# Altium schematic symbol library CUBIC_SCH.SchLib: 153 symbols (part 1 of 7)
Pins are listed as number, name and electrical type; pins without a type are passive.

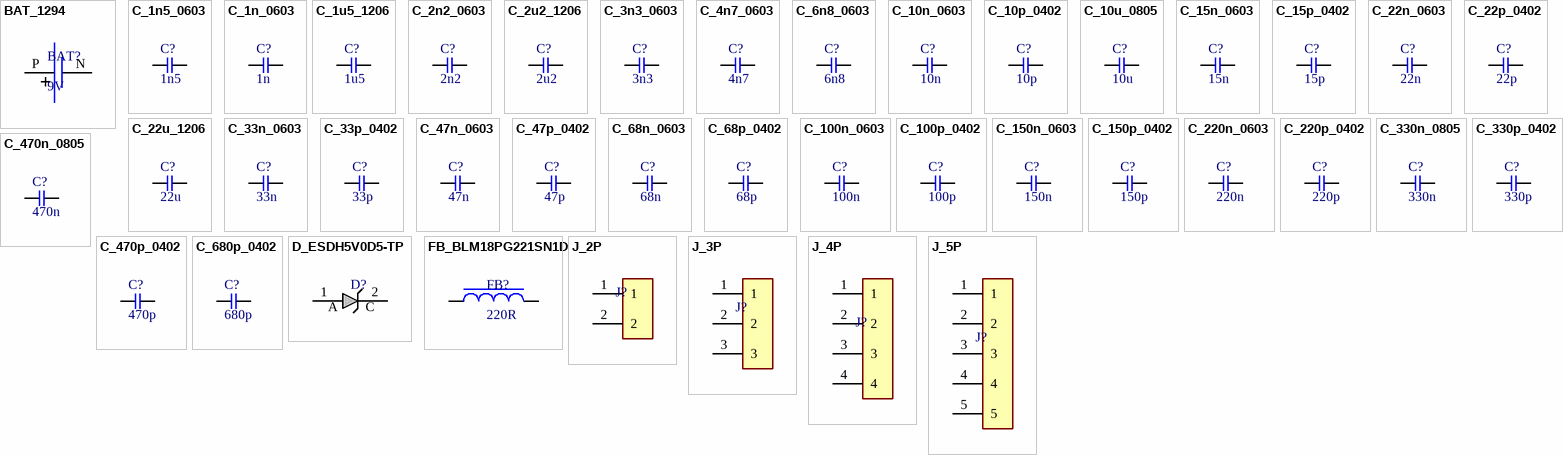
[diagram p0: symbols BAT_1294 to J_5P]

## BAT_1294
designator BAT?, comment 9V
Batteries/Accessories; Manufacturer: Keystone Electronics; Manufacturer Part Number: 1294; Connector Type: PCB; Option: General Purpose; DIN Conformance: No; Supplier: Digikey; Supplier Part Number: 36-1294-ND; RoHS: Yes; Category: Batteries and Accessories; Stock: 5351; Pricing: 1=2.96, 10=2.75, 500=2.13, 1000=1.6963, 2500=1.57521, 5000=1.54001 (USD); Contact Finish - Mating: NOT SPECIFIED; IEC Conformance: No; MIL Conformance: No; Reach SVHC Compliant: Yes; RoHS Compliant: Yes; ComponentLink1URL: https://datasheet.ciiva.com:443/pdfs/VipMasterIC/IC/KEYC/KEYCS01036/KEYCS02682-1.pdf?src-supplier=IHS+Markit; ComponentLink1Description: https://datasheet.ciiva.com:443/pdfs/VipMasterIC/IC/KEYC/KEYCS01036/KEYCS02682-1.pdf?src-supplier=IHS+Markit; ComponentLink2URL: https://datasheet.ciiva.com/1391/1716650-1391274.pdf?src-supplier=Element14; ComponentLink2Description: https://datasheet.ciiva.com/1391/1716650-1391274.pdf?src-supplier=Element14; ComponentLink3URL: https://datasheet.ciiva.com/4/1294-4181.pdf?src-supplier=Digikey; ComponentLink3Description: https://datasheet.ciiva.com/4/1294-4181.pdf?src-supplier=Digikey; ComponentLink4URL: https://datasheet.ciiva.com/18403/70182887-18403178.pdf?src-supplier=Allied+Electronics; ComponentLink4Description: https://datasheet.ciiva.com/18403/70182887-18403178.pdf?src-supplier=Allied+Electronics
footprint BAT_1294
pins: N 2, P 1

## C_1n5_0603
designator C?, comment 1n5
Ceramic Capacitor, Multilayer, Ceramic, 50V, 10% +Tol, 10% -Tol, X7R, 15% TC, 0.0015uF, Surface Mount, 0603; Manufacturer: Murata; Manufacturer Part Number: GCM188R71H152KA37D; Value: 1.5nF; Multilayer: Yes; Reference Standard: AEC-Q200; Supplier: Digikey; Supplier Part Number: 490-8021-1-ND; RoHS: Yes; Category: Ceramic Capacitors; Stock: 38151; Pricing: 1=0.17, 10=0.098, 50=0.0684, 100=0.0594, 500=0.04408, 1000=0.03929 (USD); Mounting Technology: Surface Mount; Pins: 2; Dielectric Material: Ceramic; Package Shape: Rectangular; Case/Package: 0603; Terminal Finish: Nickel; Min Operating Temperature: -55°C; Max Operating Temperature: 125°C; JESD-609 Code: e3; Capacitor Type: Ceramic; Tolerance  (fill in as +-): 10%; Package Style: SMTMeter; Packaging: Tape and Reel; Tolerance (fill in as +-): 10%; Rated DC Voltage (URdc): 50V; Temperature Characteristics Code: X7R; Termination: Wraparound; Length: 1.6mm; Width: 0.8mm; Height: 0.9mm; Reach SVHC Compliant: Yes; RoHS Compliant: Yes; ComponentLink1URL: https://datasheet.ciiva.com:443/pdfs/VipMasterIC/IC/MURE/MURE-S-A0004362469/MURE-S-A0004363035-1.pdf?src-supplier=IHS+Markit; ComponentLink1Description: https://datasheet.ciiva.com:443/pdfs/VipMasterIC/IC/MURE/MURE-S-A0004362469/MURE-S-A0004363035-1.pdf?src-supplier=IHS+Markit; ComponentLink2URL: https://datasheet.ciiva.com/29534/s0717e-29534630.pdf?src-supplier=Digikey; ComponentLink2Description: https://datasheet.ciiva.com/29534/s0717e-29534630.pdf?src-supplier=Digikey; ComponentLink3URL: https://datasheet.ciiva.com/29534/s0717e-29534631.pdf?src-supplier=Digikey; ComponentLink3Description: https://datasheet.ciiva.com/29534/s0717e-29534631.pdf?src-supplier=Digikey; ComponentLink4URL: https://datasheet.ciiva.com/29534/s0717e-29534632.pdf?src-supplier=Digikey; ComponentLink4Description: https://datasheet.ciiva.com/29534/s0717e-29534632.pdf?src-supplier=Digikey
footprint C_0603
pins: 1, 2

## C_1n_0603
designator C?, comment 1n
Ceramic Capacitor, Multilayer, Ceramic, 50V, 10% +Tol, 10% -Tol, X7R, 15% TC, 0.001uF, Surface Mount, 0603; Manufacturer: Murata; Manufacturer Part Number: GCM188R71H102KA37D; Value: 1nF; Multilayer: Yes; Reference Standard: AEC-Q200; Supplier: Digikey; Supplier Part Number: 490-4777-1-ND; RoHS: Yes; Category: Ceramic Capacitors; Stock: 6503474; Pricing: 1=0.11, 10=0.061, 50=0.0424, 100=0.0367, 500=0.02708, 1000=0.02409 (USD); Mounting Technology: Surface Mount; Pins: 2; Dielectric Material: Ceramic; Package Shape: Rectangular; Case/Package: 0603; Terminal Finish: Nickel; Min Operating Temperature: -55°C; Max Operating Temperature: 125°C; JESD-609 Code: e3; Capacitor Type: Ceramic; Tolerance  (fill in as +-): 10%; Package Style: SMTMeter; Packaging: Tape and Reel; Tolerance (fill in as +-): 10%; Rated DC Voltage (URdc): 50V; Temperature Characteristics Code: X7R; Termination: Wraparound; Length: 1.6mm; Width: 0.8mm; Height: 0.9mm; Reach SVHC Compliant: Yes; RoHS Compliant: Yes; ComponentLink1URL: https://psearch.en.murata.com:443/capacitor/product/GCM188R71H102KA37%23.pdf?src-supplier=IHS+Markit; ComponentLink1Description: https://psearch.en.murata.com:443/capacitor/product/GCM188R71H102KA37%23.pdf?src-supplier=IHS+Markit; ComponentLink2URL: https://datasheet.ciiva.com/131/product-131993.pdf?src-supplier=Digikey; ComponentLink2Description: https://datasheet.ciiva.com/131/product-131993.pdf?src-supplier=Digikey; ComponentLink3URL: https://datasheet.ciiva.com/131/product-131994.pdf?src-supplier=Digikey; ComponentLink3Description: https://datasheet.ciiva.com/131/product-131994.pdf?src-supplier=Digikey; ComponentLink4URL: https://datasheet.ciiva.com/131/product-131995.pdf?src-supplier=Digikey; ComponentLink4Description: https://datasheet.ciiva.com/131/product-131995.pdf?src-supplier=Digikey; ComponentLink5URL: https://datasheet.ciiva.com/18183/getdatasheetpartid-310250-18183617.pdf?src-supplier=Verical; ComponentLink5Description: https://datasheet.ciiva.com/18183/getdatasheetpartid-310250-18183617.pdf?src-supplier=Verical; ComponentLink6URL: https://datasheet.ciiva.com/11787/0900766b80ef92d0-11787654.pdf?src-supplier=Rs; ComponentLink6Description: https://datasheet.ciiva.com/11787/0900766b80ef92d0-11787654.pdf?src-supplier=Rs; ComponentLink7URL: https://datasheet.ciiva.com/11621/product-11621654.pdf?src-supplier=Avnet; ComponentLink7Description: https://datasheet.ciiva.com/11621/product-11621654.pdf?src-supplier=Avnet
footprint C_0603
pins: 1, 2

## C_1u5_1206
designator C?, comment 1u5
Ceramic Capacitor, Multilayer, Ceramic, 50V, 10% +Tol, 10% -Tol, X7R, 15% TC, 1.5uF, Surface Mount, 1206; Manufacturer: Murata; Manufacturer Part Number: GCM31CR71H155KA55L; Multilayer: Yes; Reference Standard: AEC-Q200; Supplier: Digikey; Supplier Part Number: 490-GCM31CR71H155KA55LCT-ND; RoHS: Yes; Category: Ceramic Capacitors; Stock: 2071; Pricing: 1=0.36, 10=0.211, 50=0.152, 100=0.1337, 500=0.1025, 1000=0.09276 (USD); Mounting Technology: Surface Mount; Pins: 2; Dielectric Material: Ceramic; Package Shape: Rectangular; Case/Package: 1206; Terminal Finish: Nickel; Min Operating Temperature: -55°C; Max Operating Temperature: 125°C; JESD-609 Code: e3; Value: 1.5uF; Capacitor Type: Ceramic; Tolerance  (fill in as +-): 10%; Package Style: SMTMeter; Packaging: Tape and Reel; Tolerance (fill in as +-): 10%; Rated DC Voltage (URdc): 50V; Temperature Characteristics Code: X7R; Termination: Wraparound; Length: 3.2mm; Width: 1.6mm; Height: 1.6mm; Reach SVHC Compliant: Yes; RoHS Compliant: Yes; ComponentLink1URL: https://datasheet.ciiva.com:443/pdfs/VipMasterIC/IC/MURE/MURE-S-A0004442191/MURE-S-A0004444852-1.pdf?src-supplier=IHS+Markit; ComponentLink1Description: https://datasheet.ciiva.com:443/pdfs/VipMasterIC/IC/MURE/MURE-S-A0004442191/MURE-S-A0004444852-1.pdf?src-supplier=IHS+Markit; ComponentLink2URL: https://datasheet.ciiva.com/174/s0717e-174705.pdf?src-supplier=Digikey; ComponentLink2Description: https://datasheet.ciiva.com/174/s0717e-174705.pdf?src-supplier=Digikey; ComponentLink3URL: https://datasheet.ciiva.com/11615/product-11615734.pdf?src-supplier=Avnet; ComponentLink3Description: https://datasheet.ciiva.com/11615/product-11615734.pdf?src-supplier=Avnet
footprint C_1206
pins: 1, 2

## C_2n2_0603
designator C?, comment 2n2
Ceramic Capacitor, Multilayer, Ceramic, 50V, 10% +Tol, 10% -Tol, X7R, 15% TC, 0.0022uF, Surface Mount, 0603; Manufacturer: Murata; Manufacturer Part Number: GCM188R71H222KA37D; Value: 2.2nF; Multilayer: Yes; Reference Standard: AEC-Q200; Supplier: Digikey; Supplier Part Number: 490-4931-1-ND; RoHS: Yes; Category: Ceramic Capacitors; Stock: 1903554; Pricing: 1=0.11, 10=0.061, 50=0.0424, 100=0.0367, 500=0.02708, 1000=0.02409 (USD); Mounting Technology: Surface Mount; Pins: 2; Dielectric Material: Ceramic; Package Shape: Rectangular; Case/Package: 0603; Terminal Finish: Nickel; Min Operating Temperature: -55°C; Max Operating Temperature: 125°C; JESD-609 Code: e3; Capacitor Type: Ceramic; Tolerance  (fill in as +-): 10%; Package Style: SMTMeter; Packaging: Tape and Reel; Tolerance (fill in as +-): 10%; Rated DC Voltage (URdc): 50V; Temperature Characteristics Code: X7R; Termination: Wraparound; Length: 1.6mm; Width: 0.8mm; Height: 0.9mm; Reach SVHC Compliant: Yes; RoHS Compliant: Yes; ComponentLink1URL: https://psearch.en.murata.com:443/capacitor/product/GCM188R71H222KA37%23.pdf?src-supplier=IHS+Markit; ComponentLink1Description: https://psearch.en.murata.com:443/capacitor/product/GCM188R71H222KA37%23.pdf?src-supplier=IHS+Markit; ComponentLink2URL: https://datasheet.ciiva.com/11786/0900766b80ef92d0-11786558.pdf?src-supplier=Rs; ComponentLink2Description: https://datasheet.ciiva.com/11786/0900766b80ef92d0-11786558.pdf?src-supplier=Rs; ComponentLink3URL: https://datasheet.ciiva.com/18183/getdatasheetpartid-178903-18183632.pdf?src-supplier=Verical; ComponentLink3Description: https://datasheet.ciiva.com/18183/getdatasheetpartid-178903-18183632.pdf?src-supplier=Verical; ComponentLink4URL: https://datasheet.ciiva.com/132/product-132035.pdf?src-supplier=Digikey; ComponentLink4Description: https://datasheet.ciiva.com/132/product-132035.pdf?src-supplier=Digikey; ComponentLink5URL: https://datasheet.ciiva.com/132/product-132036.pdf?src-supplier=Digikey; ComponentLink5Description: https://datasheet.ciiva.com/132/product-132036.pdf?src-supplier=Digikey; ComponentLink6URL: https://datasheet.ciiva.com/132/product-132037.pdf?src-supplier=Digikey; ComponentLink6Description: https://datasheet.ciiva.com/132/product-132037.pdf?src-supplier=Digikey; ComponentLink7URL: https://datasheet.ciiva.com/11463/product-11463813.pdf?src-supplier=Avnet; ComponentLink7Description: https://datasheet.ciiva.com/11463/product-11463813.pdf?src-supplier=Avnet
footprint C_0603
pins: 1, 2

## C_2u2_1206
designator C?, comment 2u2
Ceramic Capacitor, Multilayer, Ceramic, 50V, 10% +Tol, 10% -Tol, X7R, 15% TC, 2.2uF, Surface Mount, 1206; Manufacturer: Murata; Manufacturer Part Number: GCM31CR71H225KA55L; Multilayer: Yes; Reference Standard: AEC-Q200; Supplier: Digikey; Supplier Part Number: 490-4796-1-ND; RoHS: Yes; Category: Ceramic Capacitors; Stock: 350274; Pricing: 1=0.25, 10=0.147, 50=0.1058, 100=0.0931, 500=0.07134, 1000=0.06457 (USD); Mounting Technology: Surface Mount; Pins: 2; Dielectric Material: Ceramic; Package Shape: Rectangular; Case/Package: 1206; Terminal Finish: Nickel; Min Operating Temperature: -55°C; Max Operating Temperature: 125°C; JESD-609 Code: e3; Value: 2.2uF; Capacitor Type: Ceramic; Tolerance  (fill in as +-): 10%; Package Style: SMTMeter; Packaging: Tape and Reel; Tolerance (fill in as +-): 10%; Rated DC Voltage (URdc): 50V; Temperature Characteristics Code: X7R; Termination: Wraparound; Length: 3.2mm; Width: 1.6mm; Height: 1.8mm; Reach SVHC Compliant: Yes; RoHS Compliant: Yes; ComponentLink1URL: https://datasheet.ciiva.com:443/pdfs/VipMasterIC/IC/MURE/MURE-S-A0004442191/MURE-S-A0004444812-1.pdf?src-supplier=IHS+Markit; ComponentLink1Description: https://datasheet.ciiva.com:443/pdfs/VipMasterIC/IC/MURE/MURE-S-A0004442191/MURE-S-A0004444812-1.pdf?src-supplier=IHS+Markit; ComponentLink2URL: https://datasheet.ciiva.com/11789/0900766b80ef92d0-11789112.pdf?src-supplier=Rs; ComponentLink2Description: https://datasheet.ciiva.com/11789/0900766b80ef92d0-11789112.pdf?src-supplier=Rs; ComponentLink3URL: https://datasheet.ciiva.com/139/product-139819.pdf?src-supplier=Digikey; ComponentLink3Description: https://datasheet.ciiva.com/139/product-139819.pdf?src-supplier=Digikey; ComponentLink4URL: https://datasheet.ciiva.com/139/product-139820.pdf?src-supplier=Digikey; ComponentLink4Description: https://datasheet.ciiva.com/139/product-139820.pdf?src-supplier=Digikey; ComponentLink5URL: https://datasheet.ciiva.com/139/product-139821.pdf?src-supplier=Digikey; ComponentLink5Description: https://datasheet.ciiva.com/139/product-139821.pdf?src-supplier=Digikey; ComponentLink6URL: https://datasheet.ciiva.com/2989/product-2989249.pdf?src-supplier=Avnet; ComponentLink6Description: https://datasheet.ciiva.com/2989/product-2989249.pdf?src-supplier=Avnet; ComponentLink7URL: https://datasheet.ciiva.com/11615/product-11615502.pdf?src-supplier=Avnet; ComponentLink7Description: https://datasheet.ciiva.com/11615/product-11615502.pdf?src-supplier=Avnet; ComponentLink8URL: https://datasheet.ciiva.com/16449/product-16449562.pdf?src-supplier=Future+Electronics; ComponentLink8Description: https://datasheet.ciiva.com/16449/product-16449562.pdf?src-supplier=Future+Electronics
footprint C_1206
pins: 1, 2

## C_3n3_0603
designator C?, comment 3n3
Ceramic Capacitor, Multilayer, Ceramic, 50V, 10% +Tol, 10% -Tol, X7R, 15% TC, 0.0033uF, Surface Mount, 0603; Manufacturer: Murata; Manufacturer Part Number: GCM188R71H332KA37D; Value: 3.3nF; Multilayer: Yes; Reference Standard: AEC-Q200; Supplier: Digikey; Supplier Part Number: 490-8023-1-ND; RoHS: Yes; Category: Ceramic Capacitors; Stock: 110036; Pricing: 1=0.11, 10=0.061, 50=0.0424, 100=0.0367, 500=0.02708, 1000=0.02409 (USD); Mounting Technology: Surface Mount; Pins: 2; Dielectric Material: Ceramic; Package Shape: Rectangular; Case/Package: 0603; Terminal Finish: Nickel; Min Operating Temperature: -55°C; Max Operating Temperature: 125°C; JESD-609 Code: e3; Capacitor Type: Ceramic; Tolerance  (fill in as +-): 10%; Package Style: SMTMeter; Packaging: Tape and Reel; Tolerance (fill in as +-): 10%; Rated DC Voltage (URdc): 50V; Temperature Characteristics Code: X7R; Termination: Wraparound; Length: 1.6mm; Width: 0.8mm; Height: 0.9mm; Reach SVHC Compliant: Yes; RoHS Compliant: Yes; ComponentLink1URL: https://datasheet.ciiva.com:443/pdfs/VipMasterIC/IC/MURE/MURE-S-A0004362469/MURE-S-A0004362971-1.pdf?src-supplier=IHS+Markit; ComponentLink1Description: https://datasheet.ciiva.com:443/pdfs/VipMasterIC/IC/MURE/MURE-S-A0004362469/MURE-S-A0004362971-1.pdf?src-supplier=IHS+Markit; ComponentLink2URL: https://datasheet.ciiva.com/11620/product-11620470.pdf?src-supplier=Avnet; ComponentLink2Description: https://datasheet.ciiva.com/11620/product-11620470.pdf?src-supplier=Avnet; ComponentLink3URL: https://datasheet.ciiva.com/26937/getdatasheetpartid-549274-26937503.pdf?src-supplier=Verical; ComponentLink3Description: https://datasheet.ciiva.com/26937/getdatasheetpartid-549274-26937503.pdf?src-supplier=Verical; ComponentLink4URL: https://datasheet.ciiva.com/29542/s0717e-29542462.pdf?src-supplier=Digikey; ComponentLink4Description: https://datasheet.ciiva.com/29542/s0717e-29542462.pdf?src-supplier=Digikey; ComponentLink5URL: https://datasheet.ciiva.com/29542/s0717e-29542463.pdf?src-supplier=Digikey; ComponentLink5Description: https://datasheet.ciiva.com/29542/s0717e-29542463.pdf?src-supplier=Digikey
footprint C_0603
pins: 1, 2

## C_4n7_0603
designator C?, comment 4n7
Ceramic Capacitor, Multilayer, Ceramic, 50V, 10% +Tol, 10% -Tol, X7R, 15% TC, 0.0047uF, Surface Mount, 0603; Manufacturer: Murata; Manufacturer Part Number: GCM188R71H472KA37D; Value: 4.7nF; Multilayer: Yes; Reference Standard: AEC-Q200; Supplier: Digikey; Supplier Part Number: 490-4932-1-ND; RoHS: Yes; Category: Ceramic Capacitors; Stock: 261412; Pricing: 1=0.16, 10=0.088, 50=0.0614, 100=0.0532, 500=0.03928, 1000=0.03495 (USD); Mounting Technology: Surface Mount; Pins: 2; Dielectric Material: Ceramic; Package Shape: Rectangular; Case/Package: 0603; Terminal Finish: Nickel; Min Operating Temperature: -55°C; Max Operating Temperature: 125°C; JESD-609 Code: e3; Capacitor Type: Ceramic; Tolerance  (fill in as +-): 10%; Package Style: SMTMeter; Packaging: Tape and Reel; Tolerance (fill in as +-): 10%; Rated DC Voltage (URdc): 50V; Temperature Characteristics Code: X7R; Termination: Wraparound; Length: 1.6mm; Width: 0.8mm; Height: 0.9mm; Reach SVHC Compliant: Yes; RoHS Compliant: Yes; ComponentLink1URL: https://datasheet.ciiva.com:443/pdfs/VipMasterIC/IC/MURE/MURE-S-A0004362469/MURE-S-A0004362798-1.pdf?src-supplier=IHS+Markit; ComponentLink1Description: https://datasheet.ciiva.com:443/pdfs/VipMasterIC/IC/MURE/MURE-S-A0004362469/MURE-S-A0004362798-1.pdf?src-supplier=IHS+Markit; ComponentLink2URL: https://datasheet.ciiva.com/132/product-132014.pdf?src-supplier=Digikey; ComponentLink2Description: https://datasheet.ciiva.com/132/product-132014.pdf?src-supplier=Digikey; ComponentLink3URL: https://datasheet.ciiva.com/132/product-132015.pdf?src-supplier=Digikey; ComponentLink3Description: https://datasheet.ciiva.com/132/product-132015.pdf?src-supplier=Digikey; ComponentLink4URL: https://datasheet.ciiva.com/132/product-132016.pdf?src-supplier=Digikey; ComponentLink4Description: https://datasheet.ciiva.com/132/product-132016.pdf?src-supplier=Digikey; ComponentLink5URL: https://datasheet.ciiva.com/18183/getdatasheetpartid-223879-18183637.pdf?src-supplier=Verical; ComponentLink5Description: https://datasheet.ciiva.com/18183/getdatasheetpartid-223879-18183637.pdf?src-supplier=Verical; ComponentLink6URL: https://datasheet.ciiva.com/2989/product-2989244.pdf?src-supplier=Avnet; ComponentLink6Description: https://datasheet.ciiva.com/2989/product-2989244.pdf?src-supplier=Avnet
footprint C_0603
pins: 1, 2

## C_6n8_0603
designator C?, comment 6n8
Ceramic Capacitor, Multilayer, Ceramic, 50V, 10% +Tol, 10% -Tol, X7R, 15% TC, 0.0068uF, Surface Mount, 0603; Manufacturer: Murata; Manufacturer Part Number: GCM188R71H682KA37D; Value: 6.8nF; Multilayer: Yes; Reference Standard: AEC-Q200; Supplier: Digikey; Supplier Part Number: 490-6055-1-ND; RoHS: Yes; Category: Ceramic Capacitors; Stock: 60869; Pricing: 1=0.15, 10=0.082, 50=0.0572, 100=0.0495, 500=0.03644, 1000=0.03239 (USD); Mounting Technology: Surface Mount; Pins: 2; Dielectric Material: Ceramic; Package Shape: Rectangular; Case/Package: 0603; Terminal Finish: Nickel; Min Operating Temperature: -55°C; Max Operating Temperature: 125°C; JESD-609 Code: e3; Capacitor Type: Ceramic; Tolerance  (fill in as +-): 10%; Package Style: SMTMeter; Packaging: Tape and Reel; Tolerance (fill in as +-): 10%; Rated DC Voltage (URdc): 50V; Temperature Characteristics Code: X7R; Termination: Wraparound; Length: 1.6mm; Width: 0.8mm; Height: 0.9mm; Reach SVHC Compliant: Yes; RoHS Compliant: Yes; ComponentLink1URL: https://datasheet.ciiva.com:443/pdfs/VipMasterIC/IC/MURE/MURE-S-A0004362469/MURE-S-A0004362722-1.pdf?src-supplier=IHS+Markit; ComponentLink1Description: https://datasheet.ciiva.com:443/pdfs/VipMasterIC/IC/MURE/MURE-S-A0004362469/MURE-S-A0004362722-1.pdf?src-supplier=IHS+Markit; ComponentLink2URL: https://datasheet.ciiva.com/6270/s0717e-6270778.pdf?src-supplier=Digikey; ComponentLink2Description: https://datasheet.ciiva.com/6270/s0717e-6270778.pdf?src-supplier=Digikey; ComponentLink3URL: https://datasheet.ciiva.com/6270/s0717e-6270779.pdf?src-supplier=Digikey; ComponentLink3Description: https://datasheet.ciiva.com/6270/s0717e-6270779.pdf?src-supplier=Digikey; ComponentLink4URL: https://datasheet.ciiva.com/6270/s0717e-6270831.pdf?src-supplier=Digikey; ComponentLink4Description: https://datasheet.ciiva.com/6270/s0717e-6270831.pdf?src-supplier=Digikey
footprint C_0603
pins: 1, 2

## C_10n_0603
designator C?, comment 10n
Ceramic Capacitor, Multilayer, Ceramic, 50V, 10% +Tol, 10% -Tol, X7R, 15% TC, 0.01uF, Surface Mount, 0603; Manufacturer: Murata; Manufacturer Part Number: GCM188R71H103KA37D; Value: 10nF; Multilayer: Yes; Reference Standard: AEC-Q200; Supplier: Digikey; Supplier Part Number: 490-4778-1-ND; RoHS: Yes; Category: Ceramic Capacitors; Stock: 6466482; Pricing: 1=0.11, 10=0.062, 50=0.043, 100=0.0373, 500=0.02756, 1000=0.02453 (USD); Mounting Technology: Surface Mount; Pins: 2; Dielectric Material: Ceramic; Package Shape: Rectangular; Case/Package: 0603; Terminal Finish: Nickel; Min Operating Temperature: -55°C; Max Operating Temperature: 125°C; JESD-609 Code: e3; Capacitor Type: Ceramic; Tolerance  (fill in as +-): 10%; Package Style: SMTMeter; Packaging: Tape and Reel; Tolerance (fill in as +-): 10%; Rated DC Voltage (URdc): 50V; Temperature Characteristics Code: X7R; Termination: Wraparound; Length: 1.6mm; Width: 0.8mm; Height: 0.9mm; Reach SVHC Compliant: Yes; RoHS Compliant: Yes; ComponentLink1URL: https://datasheet.ciiva.com:443/pdfs/VipMasterIC/IC/MURE/MURE-S-A0004362469/MURE-S-A0004362747-1.pdf?src-supplier=IHS+Markit; ComponentLink1Description: https://datasheet.ciiva.com:443/pdfs/VipMasterIC/IC/MURE/MURE-S-A0004362469/MURE-S-A0004362747-1.pdf?src-supplier=IHS+Markit; ComponentLink2URL: https://datasheet.ciiva.com/132/product-132006.pdf?src-supplier=Digikey; ComponentLink2Description: https://datasheet.ciiva.com/132/product-132006.pdf?src-supplier=Digikey; ComponentLink3URL: https://datasheet.ciiva.com/132/product-132007.pdf?src-supplier=Digikey; ComponentLink3Description: https://datasheet.ciiva.com/132/product-132007.pdf?src-supplier=Digikey; ComponentLink4URL: https://datasheet.ciiva.com/11789/0900766b80ef92d0-11789046.pdf?src-supplier=Rs; ComponentLink4Description: https://datasheet.ciiva.com/11789/0900766b80ef92d0-11789046.pdf?src-supplier=Rs; ComponentLink5URL: https://datasheet.ciiva.com/18183/getdatasheetpartid-178897-18183622.pdf?src-supplier=Verical; ComponentLink5Description: https://datasheet.ciiva.com/18183/getdatasheetpartid-178897-18183622.pdf?src-supplier=Verical; ComponentLink6URL: https://datasheet.ciiva.com/16213/s0717e-16213899.pdf?src-supplier=Future+Electronics; ComponentLink6Description: https://datasheet.ciiva.com/16213/s0717e-16213899.pdf?src-supplier=Future+Electronics
footprint C_0603
pins: 1, 2

## C_10p_0402
designator C?, comment 10p
Ceramic Capacitor, Multilayer, Ceramic, 50V, 5% +Tol, 5% -Tol, C0G, 30ppm/Cel TC, 0.00001uF, Surface Mount, 0402; Manufacturer: Murata; Manufacturer Part Number: GCM1555C1H100JA16D; Value: 10pF; Multilayer: Yes; Reference Standard: AEC-Q200; Supplier: Digikey; Supplier Part Number: 490-10668-1-ND; RoHS: Yes; Category: Ceramic Capacitors; Stock: 314480; Pricing: 1=0.1, 10=0.032, 50=0.0214, 100=0.0182, 500=0.0129, 1000=0.01127, 2500=0.00954, 5000=0.00849, 10000=0.00763, 20000=0.00691, 30000=0.00655, 50000=0.00615, 70000=0.00592, 100000=0.00569, 250000=0.0052, 500000=0.00491, 1000000=0.00466 (USD); Mounting Technology: Surface Mount; Pins: 2; Dielectric Material: Ceramic; Package Shape: Rectangular; Case/Package: 0402; Terminal Finish: Nickel; Min Operating Temperature: -55°C; Max Operating Temperature: 125°C; JESD-609 Code: e3; Capacitor Type: Ceramic; Tolerance  (fill in as +-): 5%; Package Style: SMTMeter; Packaging: Tape and Reel; Tolerance (fill in as +-): 5%; Rated DC Voltage (URdc): 50V; Temperature Characteristics Code: C0G; Termination: Wraparound; Length: 1mm; Width: 0.5mm; Height: 0.55mm; Reach SVHC Compliant: Yes; RoHS Compliant: Yes; ComponentLink1URL: https://datasheet.ciiva.com:443/pdfs/VipMasterIC/IC/MURE/MURE-S-A0004370842/MURE-S-A0004372052-1.pdf?src-supplier=IHS+Markit; ComponentLink1Description: https://datasheet.ciiva.com:443/pdfs/VipMasterIC/IC/MURE/MURE-S-A0004370842/MURE-S-A0004372052-1.pdf?src-supplier=IHS+Markit; ComponentLink2URL: http://www.farnell.com/datasheets/1955633.pdf?src-supplier=Farnell; ComponentLink2Description: http://www.farnell.com/datasheets/1955633.pdf?src-supplier=Farnell; ComponentLink3URL: http://www.mouser.com/ds/2/281/c03e-806517.pdf?src-supplier=Mouser; ComponentLink3Description: http://www.mouser.com/ds/2/281/c03e-806517.pdf?src-supplier=Mouser; ComponentLink4URL: https://datasheet.octopart.com/GCM1555C1H100JA16D-Murata-datasheet-118179445.pdf?src-supplier=Future+Electronics; ComponentLink4Description: https://datasheet.octopart.com/GCM1555C1H100JA16D-Murata-datasheet-118179445.pdf?src-supplier=Future+Electronics; ComponentLink5URL: http://search.murata.co.jp/Ceramy/image/img/A01X/partnumbering_e_02.pdf?src-supplier=Digikey; ComponentLink5Description: http://search.murata.co.jp/Ceramy/image/img/A01X/partnumbering_e_02.pdf?src-supplier=Digikey; ComponentLink6URL: https://datasheet.octopart.com/GCM1555C1H100JA16D-Murata-datasheet-46741789.pdf?src-supplier=Element14; ComponentLink6Description: https://datasheet.octopart.com/GCM1555C1H100JA16D-Murata-datasheet-46741789.pdf?src-supplier=Element14; ComponentLink7URL: https://datasheet.octopart.com/GCM1555C1H100JA16D-Murata-datasheet-149522303.pdf?src-supplier=Farnell; ComponentLink7Description: https://datasheet.octopart.com/GCM1555C1H100JA16D-Murata-datasheet-149522303.pdf?src-supplier=Farnell; ComponentLink8URL: http://www.farnell.com/datasheets/1955633.pdf?src-supplier=Element14; ComponentLink8Description: http://www.farnell.com/datasheets/1955633.pdf?src-supplier=Element14; ComponentLink9URL: http://psearch.en.murata.com/capacitor/product/GCM1555C1H100JA16%23.pdf?src-supplier=Avnet; ComponentLink9Description: http://psearch.en.murata.com/capacitor/product/GCM1555C1H100JA16%23.pdf?src-supplier=Avnet; ComponentLink10URL: https://datasheet.octopart.com/GCM1555C1H100JA16D-Murata-datasheet-12511495.pdf?src-supplier=TME; ComponentLink10Description: https://datasheet.octopart.com/GCM1555C1H100JA16D-Murata-datasheet-12511495.pdf?src-supplier=TME
footprint C_0402
pins: 1, 2

## C_10u_0805
designator C?, comment 10u
Ceramic Capacitor, Multilayer, Ceramic, 50V, 10% +Tol, 10% -Tol, X5R, 15% TC, 10uF, Surface Mount, 0805; Manufacturer: Murata; Manufacturer Part Number: GRM21BR61H106KE43L; Supplier: Digikey; Supplier Part Number: 490-18663-1-ND; RoHS: Yes; Category: Ceramic Capacitors; Stock: 389852; Pricing: 1=0.26, 10=0.112, 50=0.0936, 100=0.0752, 500=0.0724, 1000=0.0696 (USD); ComponentLink1URL: https://datasheet.octopart.com/GRM21BR61H106KE43L-Murata-datasheet-155345082.pdf?src-supplier=Newark; ComponentLink1Description: https://datasheet.octopart.com/GRM21BR61H106KE43L-Murata-datasheet-155345082.pdf?src-supplier=Newark; ComponentLink2URL: https://datasheet.octopart.com/GRM21BR61H106KE43L-Murata-datasheet-155345082.pdf?src-supplier=Element14; ComponentLink2Description: https://datasheet.octopart.com/GRM21BR61H106KE43L-Murata-datasheet-155345082.pdf?src-supplier=Element14; ComponentLink3URL: https://search.murata.co.jp/Ceramy/image/img/A01X/G101/ENG/GRM21BR61H106KE43-01A.pdf?src-supplier=Digikey; ComponentLink3Description: https://search.murata.co.jp/Ceramy/image/img/A01X/G101/ENG/GRM21BR61H106KE43-01A.pdf?src-supplier=Digikey; ComponentLink4URL: https://datasheet.octopart.com/GRM21BR61H106KE43L-Murata-datasheet-165579666.pdf?src-supplier=TME; ComponentLink4Description: https://datasheet.octopart.com/GRM21BR61H106KE43L-Murata-datasheet-165579666.pdf?src-supplier=TME
footprint C_0805
pins: 1, 2

## C_15n_0603
designator C?, comment 15n
Ceramic Capacitor, Multilayer, Ceramic, 50V, 10% +Tol, 10% -Tol, X7R, 15% TC, 0.015uF, Surface Mount, 0603; Manufacturer: Murata; Manufacturer Part Number: GCM188R71H153KA37D; Value: 15nF; Multilayer: Yes; Reference Standard: AEC-Q200; Supplier: Digikey; Supplier Part Number: 490-6054-1-ND; RoHS: Yes; Category: Ceramic Capacitors; Stock: 12692; Pricing: 1=0.18, 10=0.102, 50=0.0716, 100=0.0622, 500=0.04618, 1000=0.04122 (USD); Mounting Technology: Surface Mount; Pins: 2; Dielectric Material: Ceramic; Package Shape: Rectangular; Case/Package: 0603; Terminal Finish: Nickel; Min Operating Temperature: -55°C; Max Operating Temperature: 125°C; JESD-609 Code: e3; Capacitor Type: Ceramic; Tolerance  (fill in as +-): 10%; Package Style: SMTMeter; Packaging: Tape and Reel; Tolerance (fill in as +-): 10%; Rated DC Voltage (URdc): 50V; Temperature Characteristics Code: X7R; Termination: Wraparound; Length: 1.6mm; Width: 0.8mm; Height: 0.9mm; Reach SVHC Compliant: Yes; RoHS Compliant: Yes; ComponentLink1URL: https://datasheet.ciiva.com:443/pdfs/VipMasterIC/IC/MURE/MURE-S-A0004362469/MURE-S-A0004362784-1.pdf?src-supplier=IHS+Markit; ComponentLink1Description: https://datasheet.ciiva.com:443/pdfs/VipMasterIC/IC/MURE/MURE-S-A0004362469/MURE-S-A0004362784-1.pdf?src-supplier=IHS+Markit; ComponentLink2URL: https://datasheet.ciiva.com/18183/getdatasheetpartid-178898-18183628.pdf?src-supplier=Verical; ComponentLink2Description: https://datasheet.ciiva.com/18183/getdatasheetpartid-178898-18183628.pdf?src-supplier=Verical; ComponentLink3URL: https://datasheet.ciiva.com/11619/product-11619450.pdf?src-supplier=Avnet; ComponentLink3Description: https://datasheet.ciiva.com/11619/product-11619450.pdf?src-supplier=Avnet; ComponentLink4URL: https://datasheet.ciiva.com/6263/s0717e-6263965.pdf?src-supplier=Digikey; ComponentLink4Description: https://datasheet.ciiva.com/6263/s0717e-6263965.pdf?src-supplier=Digikey; ComponentLink5URL: https://datasheet.ciiva.com/6263/s0717e-6263973.pdf?src-supplier=Digikey; ComponentLink5Description: https://datasheet.ciiva.com/6263/s0717e-6263973.pdf?src-supplier=Digikey
footprint C_0603
pins: 1, 2

## C_15p_0402
designator C?, comment 15p
Ceramic Capacitor, Multilayer, Ceramic, 50V, 5% +Tol, 5% -Tol, C0G, 30ppm/Cel TC, 0.000015uF, Surface Mount, 0402; Manufacturer: Murata; Manufacturer Part Number: GCM1555C1H150JA16D; Value: 15pF; Multilayer: Yes; Reference Standard: AEC-Q200; Supplier: Digikey; Supplier Part Number: 490-11147-1-ND; RoHS: Yes; Category: Ceramic Capacitors; Stock: 864809; Pricing: 1=0.1, 10=0.038, 50=0.026, 100=0.0222, 500=0.01588, 1000=0.01392, 2500=0.01184, 5000=0.01058 (USD); Mounting Technology: Surface Mount; Pins: 2; Dielectric Material: Ceramic; Package Shape: Rectangular; Case/Package: 0402; Terminal Finish: Nickel; Min Operating Temperature: -55°C; Max Operating Temperature: 125°C; JESD-609 Code: e3; Capacitor Type: Ceramic; Tolerance  (fill in as +-): 5%; Package Style: SMTMeter; Packaging: Tape and Reel; Tolerance (fill in as +-): 5%; Rated DC Voltage (URdc): 50V; Temperature Characteristics Code: C0G; Termination: Wraparound; Length: 1mm; Width: 0.5mm; Height: 0.55mm; Reach SVHC Compliant: Yes; RoHS Compliant: Yes; ComponentLink1URL: https://datasheet.ciiva.com:443/pdfs/VipMasterIC/IC/MURE/MURE-S-A0004370842/MURE-S-A0004372452-1.pdf?src-supplier=IHS+Markit; ComponentLink1Description: https://datasheet.ciiva.com:443/pdfs/VipMasterIC/IC/MURE/MURE-S-A0004370842/MURE-S-A0004372452-1.pdf?src-supplier=IHS+Markit; ComponentLink2URL: http://www.mouser.com/ds/2/281/c03e-806517.pdf?src-supplier=Mouser; ComponentLink2Description: http://www.mouser.com/ds/2/281/c03e-806517.pdf?src-supplier=Mouser; ComponentLink3URL: https://www.murata.com/~/media/webrenewal/support/library/catalog/products/capacitor/mlcc/c03e.ashx?la=en-us&src-supplier=Digikey; ComponentLink3Description: https://www.murata.com/~/media/webrenewal/support/library/catalog/products/capacitor/mlcc/c03e.ashx?la=en-us&src-supplier=Digikey; ComponentLink4URL: http://psearch.en.murata.com/capacitor/product/GCM1555C1H150JA16%23.pdf?src-supplier=Avnet; ComponentLink4Description: http://psearch.en.murata.com/capacitor/product/GCM1555C1H150JA16%23.pdf?src-supplier=Avnet; ComponentLink5URL: https://datasheet.octopart.com/GCM1555C1H150JA16D-Murata-datasheet-149522312.pdf?src-supplier=Newark; ComponentLink5Description: https://datasheet.octopart.com/GCM1555C1H150JA16D-Murata-datasheet-149522312.pdf?src-supplier=Newark; ComponentLink6URL: https://datasheet.octopart.com/GCM1555C1H150JA16D-Murata-datasheet-12511495.pdf?src-supplier=TME; ComponentLink6Description: https://datasheet.octopart.com/GCM1555C1H150JA16D-Murata-datasheet-12511495.pdf?src-supplier=TME
footprint C_0402
pins: 1, 2

## C_22n_0603
designator C?, comment 22n
Ceramic Capacitor, Multilayer, Ceramic, 50V, 10% +Tol, 10% -Tol, X7R, 15% TC, 0.022uF, Surface Mount, 0603; Manufacturer: Murata; Manufacturer Part Number: GCM188R71H223KA37D; Value: 22nF; Multilayer: Yes; Reference Standard: AEC-Q200; Supplier: Digikey; Supplier Part Number: 490-4933-1-ND; RoHS: Yes; Category: Ceramic Capacitors; Stock: 136429; Pricing: 1=0.22, 10=0.124, 50=0.0874, 100=0.0762, 500=0.05706, 1000=0.0511 (USD); Mounting Technology: Surface Mount; Pins: 2; Dielectric Material: Ceramic; Package Shape: Rectangular; Case/Package: 0603; Terminal Finish: Nickel; Min Operating Temperature: -55°C; Max Operating Temperature: 125°C; JESD-609 Code: e3; Capacitor Type: Ceramic; Tolerance  (fill in as +-): 10%; Package Style: SMTMeter; Packaging: Tape and Reel; Tolerance (fill in as +-): 10%; Rated DC Voltage (URdc): 50V; Temperature Characteristics Code: X7R; Termination: Wraparound; Length: 1.6mm; Width: 0.8mm; Height: 0.9mm; Reach SVHC Compliant: Yes; RoHS Compliant: Yes; ComponentLink1URL: https://datasheet.ciiva.com:443/pdfs/VipMasterIC/IC/MURE/MURE-S-A0004362469/MURE-S-A0004362882-1.pdf?src-supplier=IHS+Markit; ComponentLink1Description: https://datasheet.ciiva.com:443/pdfs/VipMasterIC/IC/MURE/MURE-S-A0004362469/MURE-S-A0004362882-1.pdf?src-supplier=IHS+Markit; ComponentLink2URL: https://datasheet.ciiva.com/132/product-132973.pdf?src-supplier=Digikey; ComponentLink2Description: https://datasheet.ciiva.com/132/product-132973.pdf?src-supplier=Digikey; ComponentLink3URL: https://datasheet.ciiva.com/132/product-132974.pdf?src-supplier=Digikey; ComponentLink3Description: https://datasheet.ciiva.com/132/product-132974.pdf?src-supplier=Digikey; ComponentLink4URL: https://datasheet.ciiva.com/132/product-132975.pdf?src-supplier=Digikey; ComponentLink4Description: https://datasheet.ciiva.com/132/product-132975.pdf?src-supplier=Digikey; ComponentLink5URL: https://datasheet.ciiva.com/11787/0900766b80ef92d0-11787291.pdf?src-supplier=Rs; ComponentLink5Description: https://datasheet.ciiva.com/11787/0900766b80ef92d0-11787291.pdf?src-supplier=Rs; ComponentLink6URL: https://datasheet.ciiva.com/18102/getdatasheetpartid-63138-18102038.pdf?src-supplier=Verical; ComponentLink6Description: https://datasheet.ciiva.com/18102/getdatasheetpartid-63138-18102038.pdf?src-supplier=Verical; ComponentLink7URL: https://datasheet.ciiva.com/16371/product-16371513.pdf?src-supplier=Future+Electronics; ComponentLink7Description: https://datasheet.ciiva.com/16371/product-16371513.pdf?src-supplier=Future+Electronics; ComponentLink8URL: https://datasheet.ciiva.com/2989/product-2989243.pdf?src-supplier=Avnet; ComponentLink8Description: https://datasheet.ciiva.com/2989/product-2989243.pdf?src-supplier=Avnet
footprint C_0603
pins: 1, 2

## C_22p_0402
designator C?, comment 22p
Ceramic Capacitor, Multilayer, Ceramic, 50V, 5% +Tol, 5% -Tol, C0G, 30ppm/Cel TC, 0.000022uF, Surface Mount, 0402; Manufacturer: Murata; Manufacturer Part Number: GCM1555C1H220JA16D; Value: 22pF; Multilayer: Yes; Reference Standard: AEC-Q200; Supplier: Digikey; Supplier Part Number: 490-9648-1-ND; RoHS: Yes; Category: Ceramic Capacitors; Stock: 595607; Pricing: 1=0.1, 10=0.034, 50=0.0232, 100=0.0198, 500=0.0141, 1000=0.01234, 2500=0.01046, 5000=0.00933 (USD); Mounting Technology: Surface Mount; Pins: 2; Dielectric Material: Ceramic; Package Shape: Rectangular; Case/Package: 0402; Terminal Finish: Nickel; Min Operating Temperature: -55°C; Max Operating Temperature: 125°C; JESD-609 Code: e3; Capacitor Type: Ceramic; Tolerance  (fill in as +-): 5%; Package Style: SMTMeter; Packaging: Tape and Reel; Tolerance (fill in as +-): 5%; Rated DC Voltage (URdc): 50V; Temperature Characteristics Code: C0G; Termination: Wraparound; Length: 1mm; Width: 0.5mm; Height: 0.55mm; Reach SVHC Compliant: Yes; RoHS Compliant: Yes; ComponentLink1URL: https://datasheet.ciiva.com:443/pdfs/VipMasterIC/IC/MURE/MURE-S-A0004370842/MURE-S-A0004372563-1.pdf?src-supplier=IHS+Markit; ComponentLink1Description: https://datasheet.ciiva.com:443/pdfs/VipMasterIC/IC/MURE/MURE-S-A0004370842/MURE-S-A0004372563-1.pdf?src-supplier=IHS+Markit; ComponentLink2URL: http://www.farnell.com/datasheets/2189077.pdf?src-supplier=Farnell; ComponentLink2Description: http://www.farnell.com/datasheets/2189077.pdf?src-supplier=Farnell; ComponentLink3URL: http://www.mouser.com/ds/2/281/c03e-806517.pdf?src-supplier=Mouser; ComponentLink3Description: http://www.mouser.com/ds/2/281/c03e-806517.pdf?src-supplier=Mouser; ComponentLink4URL: https://datasheet.octopart.com/GCM1555C1H220JA16D-Murata-datasheet-12524712.pdf?src-supplier=Future+Electronics; ComponentLink4Description: https://datasheet.octopart.com/GCM1555C1H220JA16D-Murata-datasheet-12524712.pdf?src-supplier=Future+Electronics; ComponentLink5URL: https://datasheet.octopart.com/GCM1555C1H220JA16D-Murata-datasheet-149522328.pdf?src-supplier=Farnell; ComponentLink5Description: https://datasheet.octopart.com/GCM1555C1H220JA16D-Murata-datasheet-149522328.pdf?src-supplier=Farnell; ComponentLink6URL: http://search.murata.co.jp/Ceramy/image/img/A01X/partnumbering_e_02.pdf?src-supplier=Digikey; ComponentLink6Description: http://search.murata.co.jp/Ceramy/image/img/A01X/partnumbering_e_02.pdf?src-supplier=Digikey; ComponentLink7URL: http://psearch.en.murata.com/capacitor/product/GCM1555C1H220JA16%23.pdf?src-supplier=Avnet; ComponentLink7Description: http://psearch.en.murata.com/capacitor/product/GCM1555C1H220JA16%23.pdf?src-supplier=Avnet
footprint C_0402
pins: 1, 2

## C_22u_1206
designator C?, comment 22u
Ceramic Capacitor, Multilayer, Ceramic, 10V, 10% +Tol, 10% -Tol, X7R, 15% TC, 22uF, Surface Mount, 1306; Manufacturer: Murata; Manufacturer Part Number: GCM31CR71A226KE02K; Multilayer: Yes; Reference Standard: AEC-Q200; Supplier: Digikey; Supplier Part Number: 490-GCM31CR71A226KE02KCT-ND; RoHS: Yes; Category: Ceramic Capacitors; Stock: 57330; Pricing: 1=0.82, 10=0.519, 100=0.3628, 1000=0.28135, 2500=0.25274 (USD); Mounting Technology: Surface Mount; Pins: 2; Dielectric Material: Ceramic; Package Shape: Rectangular; Case/Package: 1206; Terminal Finish: Nickel; Min Operating Temperature: -55°C; Max Operating Temperature: 125°C; JESD-609 Code: e3; Value: 22uF; Capacitor Type: Ceramic; Tolerance  (fill in as +-): 10%; Package Style: SMTMeter; Packaging: Tape and Reel; Tolerance (fill in as +-): 10%; Rated DC Voltage (URdc): 10V; Temperature Characteristics Code: X7R; Termination: Wraparound; Length: 3.2mm; Width: 1.6mm; Height: 1.8mm; Reach SVHC Compliant: Yes; RoHS Compliant: Yes; ComponentLink1URL: https://datasheet.ciiva.com:443/pdfs/VipMasterIC/IC/MURE/MURE-S-A0004442191/MURE-S-A0004445003-1.pdf?src-supplier=IHS+Markit; ComponentLink1Description: https://datasheet.ciiva.com:443/pdfs/VipMasterIC/IC/MURE/MURE-S-A0004442191/MURE-S-A0004445003-1.pdf?src-supplier=IHS+Markit; ComponentLink2URL: https://datasheet.octopart.com/GCM31CR71A226KE02K-Murata-datasheet-149522736.pdf?src-supplier=Newark; ComponentLink2Description: https://datasheet.octopart.com/GCM31CR71A226KE02K-Murata-datasheet-149522736.pdf?src-supplier=Newark; ComponentLink3URL: https://datasheet.octopart.com/GCM31CR71A226KE02K-Murata-datasheet-165579661.pdf?src-supplier=TME; ComponentLink3Description: https://datasheet.octopart.com/GCM31CR71A226KE02K-Murata-datasheet-165579661.pdf?src-supplier=TME
footprint C_1206
pins: 1, 2

## C_33n_0603
designator C?, comment 33n
Ceramic Capacitor, Multilayer, Ceramic, 50V, 10% +Tol, 10% -Tol, X7R, 15% TC, 0.033uF, Surface Mount, 0603; Manufacturer: Murata; Manufacturer Part Number: GCM188R71H333KA55D; Value: 33nF; Multilayer: Yes; Reference Standard: AEC-Q200; Supplier: Digikey; Supplier Part Number: 490-8025-1-ND; RoHS: Yes; Category: Ceramic Capacitors; Stock: 346296; Pricing: 1=0.18, 10=0.105, 50=0.0748, 100=0.0654, 500=0.04944, 1000=0.04446 (USD); Mounting Technology: Surface Mount; Pins: 2; Dielectric Material: Ceramic; Package Shape: Rectangular; Case/Package: 0603; Terminal Finish: Nickel; Min Operating Temperature: -55°C; Max Operating Temperature: 125°C; JESD-609 Code: e3; Capacitor Type: Ceramic; Tolerance  (fill in as +-): 10%; Package Style: SMTMeter; Packaging: Tape and Reel; Tolerance (fill in as +-): 10%; Rated DC Voltage (URdc): 50V; Temperature Characteristics Code: X7R; Termination: Wraparound; Length: 1.6mm; Width: 0.8mm; Height: 0.9mm; Reach SVHC Compliant: Yes; RoHS Compliant: Yes; ComponentLink1URL: https://datasheet.ciiva.com:443/pdfs/VipMasterIC/IC/MURE/MURE-S-A0004362469/MURE-S-A0004362773-1.pdf?src-supplier=IHS+Markit; ComponentLink1Description: https://datasheet.ciiva.com:443/pdfs/VipMasterIC/IC/MURE/MURE-S-A0004362469/MURE-S-A0004362773-1.pdf?src-supplier=IHS+Markit; ComponentLink2URL: https://datasheet.ciiva.com/11605/product-11605438.pdf?src-supplier=Avnet; ComponentLink2Description: https://datasheet.ciiva.com/11605/product-11605438.pdf?src-supplier=Avnet; ComponentLink3URL: https://datasheet.ciiva.com/18183/getdatasheetpartid-178902-18183633.pdf?src-supplier=Verical; ComponentLink3Description: https://datasheet.ciiva.com/18183/getdatasheetpartid-178902-18183633.pdf?src-supplier=Verical; ComponentLink4URL: https://datasheet.ciiva.com/29540/s0717e-29540837.pdf?src-supplier=Digikey; ComponentLink4Description: https://datasheet.ciiva.com/29540/s0717e-29540837.pdf?src-supplier=Digikey; ComponentLink5URL: https://datasheet.ciiva.com/29540/s0717e-29540838.pdf?src-supplier=Digikey; ComponentLink5Description: https://datasheet.ciiva.com/29540/s0717e-29540838.pdf?src-supplier=Digikey
footprint C_0603
pins: 1, 2

## C_33p_0402
designator C?, comment 33p
Ceramic Capacitor, Multilayer, Ceramic, 50V, 5% +Tol, 5% -Tol, C0G, 30ppm/Cel TC, 0.000033uF, Surface Mount, 0402; Manufacturer: Murata; Manufacturer Part Number: GCM1555C1H330JA16J; Value: 33pF; Multilayer: Yes; Reference Standard: AEC-Q200; Supplier: Digikey; Supplier Part Number: 490-17750-1-ND; RoHS: Yes; Category: Ceramic Capacitors; Stock: 921903; Pricing: 1=0.1, 10=0.024, 50=0.016, 100=0.0137, 500=0.00972, 1000=0.0085, 2500=0.00721, 5000=0.00643 (USD); Mounting Technology: Surface Mount; Pins: 2; Dielectric Material: Ceramic; Package Shape: Rectangular; Case/Package: 0402; Terminal Finish: Nickel; Min Operating Temperature: -55°C; Max Operating Temperature: 125°C; JESD-609 Code: e3; Capacitor Type: Ceramic; Tolerance  (fill in as +-): 5%; Package Style: SMTMeter; Packaging: Tape and Reel; Tolerance (fill in as +-): 5%; Rated DC Voltage (URdc): 50V; Temperature Characteristics Code: C0G; Termination: Wraparound; Length: 1mm; Width: 0.5mm; Height: 0.55mm; Reach SVHC Compliant: Yes; RoHS Compliant: Yes; ComponentLink1URL: https://datasheet.ciiva.com:443/pdfs/VipMasterIC/IC/MURE/MURE-S-A0004370842/MURE-S-A0004371970-1.pdf?src-supplier=IHS+Markit; ComponentLink1Description: https://datasheet.ciiva.com:443/pdfs/VipMasterIC/IC/MURE/MURE-S-A0004370842/MURE-S-A0004371970-1.pdf?src-supplier=IHS+Markit; ComponentLink2URL: http://www.mouser.com/ds/2/281/c03e-806517.pdf?src-supplier=Mouser; ComponentLink2Description: http://www.mouser.com/ds/2/281/c03e-806517.pdf?src-supplier=Mouser; ComponentLink3URL: https://search.murata.co.jp/Ceramy/image/img/A01X/G101/ENG/GCM1555C1H330JA16-01.pdf?src-supplier=Digikey; ComponentLink3Description: https://search.murata.co.jp/Ceramy/image/img/A01X/G101/ENG/GCM1555C1H330JA16-01.pdf?src-supplier=Digikey; ComponentLink4URL: https://datasheet.octopart.com/GCM1555C1H330JA16J-Murata-datasheet-149522338.pdf?src-supplier=Farnell; ComponentLink4Description: https://datasheet.octopart.com/GCM1555C1H330JA16J-Murata-datasheet-149522338.pdf?src-supplier=Farnell; ComponentLink5URL: http://psearch.en.murata.com/capacitor/product/GCM1555C1H330JA16%23.pdf?src-supplier=Avnet; ComponentLink5Description: http://psearch.en.murata.com/capacitor/product/GCM1555C1H330JA16%23.pdf?src-supplier=Avnet; ComponentLink6URL: http://www.murata.com/~/media/webrenewal/support/library/catalog/products/capacitor/mlcc/c03e.ashx?src-supplier=Digikey; ComponentLink6Description: http://www.murata.com/~/media/webrenewal/support/library/catalog/products/capacitor/mlcc/c03e.ashx?src-supplier=Digikey; ComponentLink7URL: https://datasheet.octopart.com/GCM1555C1H330JA16J-Murata-datasheet-78376554.pdf?src-supplier=Future+Electronics; ComponentLink7Description: https://datasheet.octopart.com/GCM1555C1H330JA16J-Murata-datasheet-78376554.pdf?src-supplier=Future+Electronics; ComponentLink8URL: https://datasheet.octopart.com/GCM1555C1H330JA16J-Murata-datasheet-12511495.pdf?src-supplier=TME; ComponentLink8Description: https://datasheet.octopart.com/GCM1555C1H330JA16J-Murata-datasheet-12511495.pdf?src-supplier=TME
footprint C_0402
pins: 1, 2

## C_47n_0603
designator C?, comment 47n
Ceramic Capacitor, Multilayer, Ceramic, 50V, 10% +Tol, 10% -Tol, X7R, 15% TC, 0.047uF, Surface Mount, 0603; Manufacturer: Murata; Manufacturer Part Number: GCM188R71H473KA55D; Value: 47nF; Multilayer: Yes; Reference Standard: AEC-Q200; Supplier: Digikey; Supplier Part Number: 490-4934-1-ND; RoHS: Yes; Category: Ceramic Capacitors; Stock: 5981812; Pricing: 1=0.19, 10=0.109, 50=0.0776, 100=0.0678, 500=0.0513, 1000=0.04616 (USD); Mounting Technology: Surface Mount; Pins: 2; Dielectric Material: Ceramic; Package Shape: Rectangular; Case/Package: 0603; Terminal Finish: Nickel; Min Operating Temperature: -55°C; Max Operating Temperature: 125°C; JESD-609 Code: e3; Capacitor Type: Ceramic; Tolerance  (fill in as +-): 10%; Package Style: SMTMeter; Packaging: Tape and Reel; Tolerance (fill in as +-): 10%; Rated DC Voltage (URdc): 50V; Temperature Characteristics Code: X7R; Termination: Wraparound; Length: 1.6mm; Width: 0.8mm; Height: 0.9mm; Reach SVHC Compliant: Yes; RoHS Compliant: Yes; ComponentLink1URL: https://datasheet.ciiva.com:443/pdfs/VipMasterIC/IC/MURE/MURE-S-A0004362469/MURE-S-A0004362905-1.pdf?src-supplier=IHS+Markit; ComponentLink1Description: https://datasheet.ciiva.com:443/pdfs/VipMasterIC/IC/MURE/MURE-S-A0004362469/MURE-S-A0004362905-1.pdf?src-supplier=IHS+Markit; ComponentLink2URL: https://datasheet.ciiva.com/11607/product-11607793.pdf?src-supplier=Avnet; ComponentLink2Description: https://datasheet.ciiva.com/11607/product-11607793.pdf?src-supplier=Avnet; ComponentLink3URL: https://datasheet.ciiva.com/18183/getdatasheetpartid-178923-18183641.pdf?src-supplier=Verical; ComponentLink3Description: https://datasheet.ciiva.com/18183/getdatasheetpartid-178923-18183641.pdf?src-supplier=Verical; ComponentLink4URL: https://datasheet.ciiva.com/16214/product-16214645.pdf?src-supplier=Future+Electronics; ComponentLink4Description: https://datasheet.ciiva.com/16214/product-16214645.pdf?src-supplier=Future+Electronics; ComponentLink5URL: https://datasheet.ciiva.com/161/product-161859.pdf?src-supplier=Digikey; ComponentLink5Description: https://datasheet.ciiva.com/161/product-161859.pdf?src-supplier=Digikey; ComponentLink6URL: https://datasheet.ciiva.com/161/product-161860.pdf?src-supplier=Digikey; ComponentLink6Description: https://datasheet.ciiva.com/161/product-161860.pdf?src-supplier=Digikey; ComponentLink7URL: https://datasheet.ciiva.com/161/product-161861.pdf?src-supplier=Digikey; ComponentLink7Description: https://datasheet.ciiva.com/161/product-161861.pdf?src-supplier=Digikey
footprint C_0603
pins: 1, 2

## C_47p_0402
designator C?, comment 47p
Ceramic Capacitor, Multilayer, Ceramic, 50V, 5% +Tol, 5% -Tol, C0G, 30ppm/Cel TC, 0.000047uF, Surface Mount, 0402; Manufacturer: Murata; Manufacturer Part Number: GCM1555C1H470JA16J; Value: 47pF; Multilayer: Yes; Reference Standard: AEC-Q200; Supplier: Digikey; Supplier Part Number: 490-17752-1-ND; RoHS: Yes; Category: Ceramic Capacitors; Stock: 394056; Pricing: 1=0.1, 10=0.026, 50=0.0178, 100=0.0153, 500=0.01094, 1000=0.00958, 2500=0.00815, 5000=0.00728 (USD); Mounting Technology: Surface Mount; Pins: 2; Dielectric Material: Ceramic; Package Shape: Rectangular; Case/Package: 0402; Terminal Finish: Nickel; Min Operating Temperature: -55°C; Max Operating Temperature: 125°C; JESD-609 Code: e3; Capacitor Type: Ceramic; Tolerance  (fill in as +-): 5%; Package Style: SMTMeter; Packaging: Tape and Reel; Tolerance (fill in as +-): 5%; Rated DC Voltage (URdc): 50V; Temperature Characteristics Code: C0G; Termination: Wraparound; Length: 1mm; Width: 0.5mm; Height: 0.55mm; Reach SVHC Compliant: Yes; RoHS Compliant: Yes; ComponentLink1URL: https://datasheet.ciiva.com:443/pdfs/VipMasterIC/IC/MURE/MURE-S-A0004370842/MURE-S-A0004372084-1.pdf?src-supplier=IHS+Markit; ComponentLink1Description: https://datasheet.ciiva.com:443/pdfs/VipMasterIC/IC/MURE/MURE-S-A0004370842/MURE-S-A0004372084-1.pdf?src-supplier=IHS+Markit; ComponentLink2URL: http://www.mouser.com/ds/2/281/c03e-806517.pdf?src-supplier=Mouser; ComponentLink2Description: http://www.mouser.com/ds/2/281/c03e-806517.pdf?src-supplier=Mouser; ComponentLink3URL: http://www.murata.com/~/media/webrenewal/support/library/catalog/products/capacitor/mlcc/c03e.ashx?src-supplier=Digikey; ComponentLink3Description: http://www.murata.com/~/media/webrenewal/support/library/catalog/products/capacitor/mlcc/c03e.ashx?src-supplier=Digikey; ComponentLink4URL: http://psearch.en.murata.com/capacitor/product/GCM1555C1H470JA16%23.pdf?src-supplier=Avnet; ComponentLink4Description: http://psearch.en.murata.com/capacitor/product/GCM1555C1H470JA16%23.pdf?src-supplier=Avnet; ComponentLink5URL: https://search.murata.co.jp/Ceramy/image/img/A01X/G101/ENG/GCM1555C1H470JA16-01.pdf?src-supplier=Digikey; ComponentLink5Description: https://search.murata.co.jp/Ceramy/image/img/A01X/G101/ENG/GCM1555C1H470JA16-01.pdf?src-supplier=Digikey
footprint C_0402
pins: 1, 2